# Altium schematic symbol library PCB_Project1.SCHLIB: 19 symbols
Pins are listed as number, name and electrical type; pins without a type are passive.

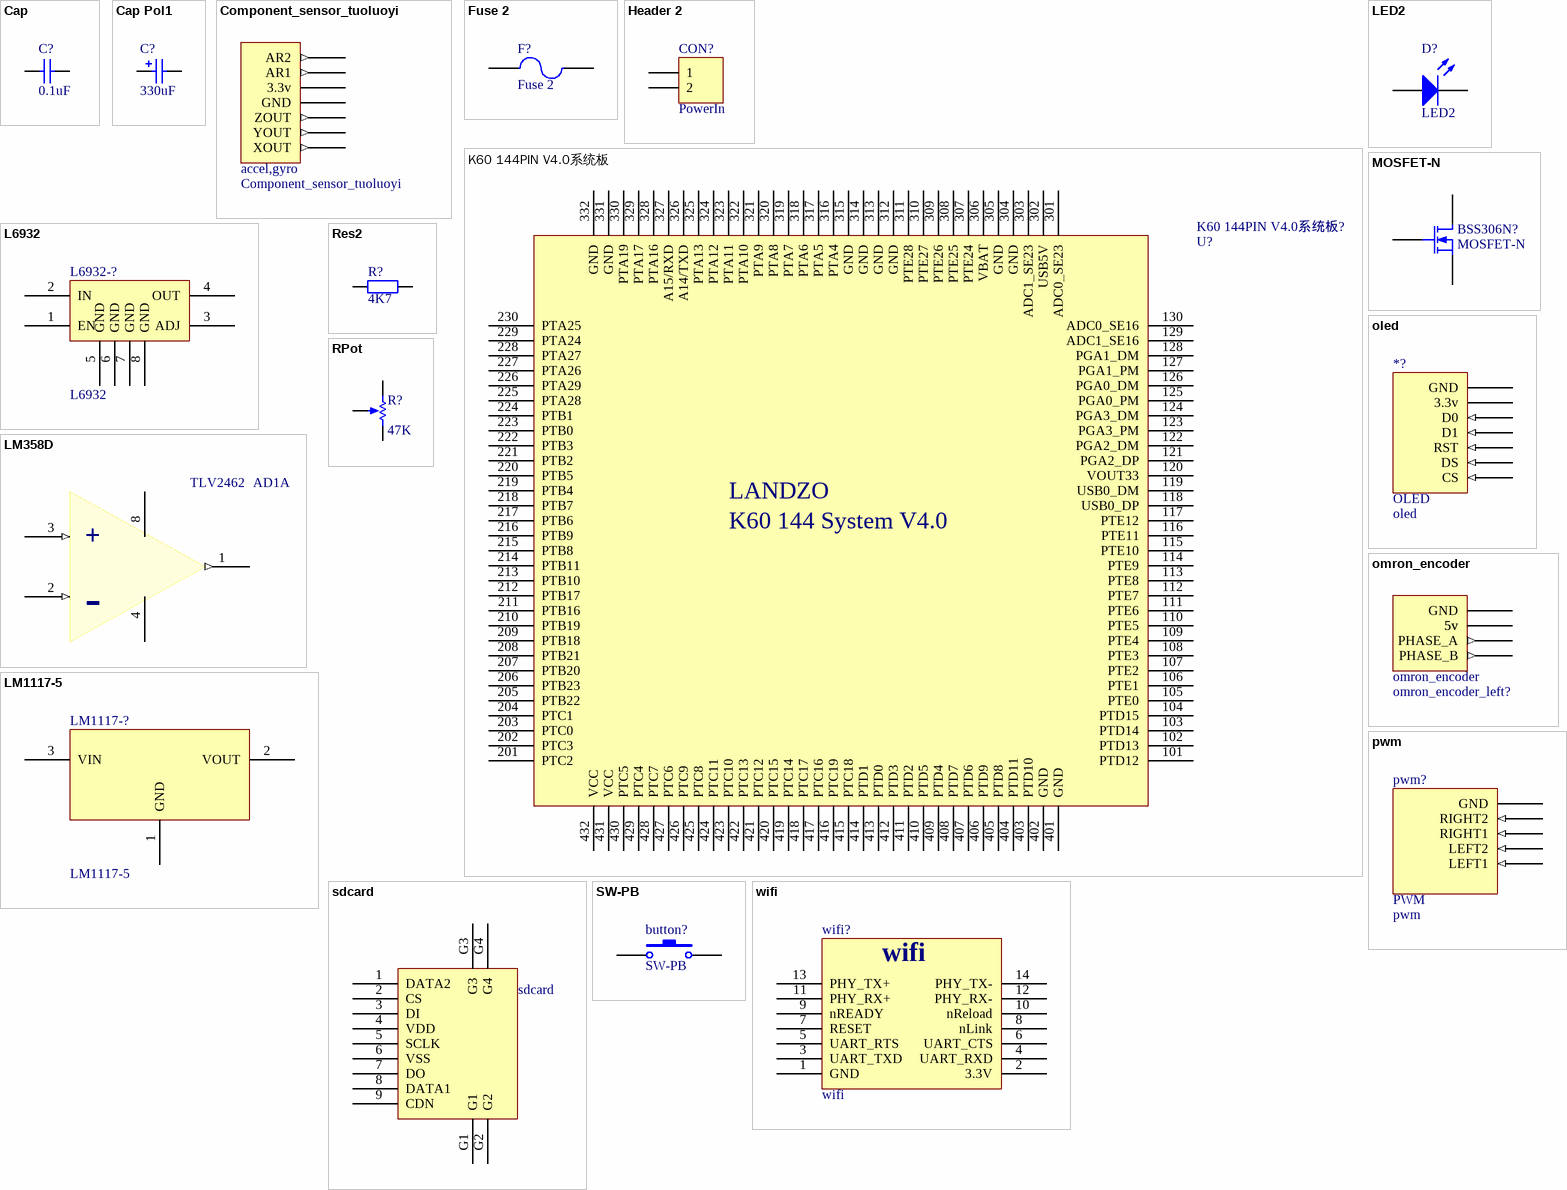
[diagram p0: symbols Cap to wifi]

## Cap
designator C?  value 0.1uF  (hidden comment: Cap)
Capacitor; Published: 8-Jun-2000; LatestRevisionDate: 17-Jul-2002; LatestRevisionNote: Re-released for DXP Platform.; PackageReference: RAD-0.3; Publisher: Altium Limited; PackageDescription: Radial Cap, Thru-Hole; 2 Leads; 0.3 in Pin Spacing
footprint RAD-0.3 (Radial Cap, Thru-Hole; 2 Leads; 0.3 in Pin Spacing)
simulation model CAP (Capacitor)
signal-integrity model Cap
pins: 1, 2

## Cap Pol1
designator C?  value 330uF  (hidden comment: Cap Pol1)
Polarized Capacitor (Radial); Published: 8-Jun-2000; LatestRevisionDate: 17-Jul-2002; LatestRevisionNote: Re-released for DXP Platform.; PackageReference: RB7.6-15; Publisher: Altium Limited; PackageDescription: Polarized Capacitor (Radial); 2 Leads
footprint RB7.6-15 (Polarized Capacitor (Radial); 2 Leads)
simulation model CAP (Capacitor)
signal-integrity model Cap Pol
pins: 1, 2
1 alternate drawing of the same symbol

## Component_sensor_tuoluoyi
designator sensor_tuoluoyi?
footprint HDR1X7H (Connector; Header; 7 Position; Right Angle); pin to pad 3.3v>5 AR1>6 AR2>7 GND>4 XOUT>1 YOUT>2 ZOUT>3
pins: 3.3v (power), AR1 (out), AR2 (out), GND, XOUT (out), YOUT (out), ZOUT (out)
text: accel,gyro

## Fuse 2
designator F?
Fuse; Published: 8-Jun-2000; LatestRevisionDate: 17-Jul-2002; LatestRevisionNote: Re-released for DXP Platform.; PackageReference: PIN-W2/E2.8; Publisher: Altium Limited; PackageDescription: Thru-Hole; 2 Leads
footprint PIN-W2/E2.8 (Thru-Hole; 2 Leads)
simulation model FUSE (Spice Subcircuit)
pins: 1, 2

## Header 2
designator CON?, comment PowerIn
Header, 2-Pin; LatestRevisionDate: 17-Jul-2002; LatestRevisionNote: Re-released for DXP Platform.; Publisher: Altium Limited
footprint HDR1X2 (Connector; Header; 2 Position)
signal-integrity model Connector
pins: 1, 2

## K60 144PIN V4.0系统板
designator K60 144PIN V4.0系统板?, comment U?
pins: 101 PTD12, 102 PTD13, 103 PTD14, 104 PTD15, 105 PTE0, 106 PTE1, 107 PTE2, 108 PTE3, 109 PTE4, 110 PTE5, 111 PTE6, 112 PTE7, 113 PTE8, 114 PTE9, 115 PTE10, 116 PTE11, 117 PTE12, 118 USB0_DP, 119 USB0_DM, 120 VOUT33, 121 PGA2_DP, 122 PGA2_DM, 123 PGA3_PM, 124 PGA3_DM, 125 PGA0_PM, 126 PGA0_DM, 127 PGA1_PM, 128 PGA1_DM, 129 ADC1_SE16, 130 ADC0_SE16, 201 PTC2, 202 PTC3, 203 PTC0, 204 PTC1, 205 PTB22, 206 PTB23, 207 PTB20, 208 PTB21, 209 PTB18, 210 PTB19, 211 PTB16, 212 PTB17, 213 PTB10, 214 PTB11, 215 PTB8, 216 PTB9, 217 PTB6, 218 PTB7, 219 PTB4, 220 PTB5, 221 PTB2, 222 PTB3, 223 PTB0, 224 PTB1, 225 PTA28, 226 PTA29, 227 PTA26, 228 PTA27, 229 PTA24, 230 PTA25, 301 ADC0_SE23, 302 USB5V, 303 ADC1_SE23, 304 GND, 305 GND, 306 VBAT, 307 PTE24, 308 PTE25, 309 PTE26, 310 PTE27, 311 PTE28, 312 GND, 313 GND, 314 GND, 315 GND, 316 PTA4, 317 PTA5, 318 PTA6, 319 PTA7, 320 PTA8, 321 PTA9, 322 PTA10, 323 PTA11, 324 PTA12, 325 PTA13, 326 A14/TXD, 327 A15/RXD, 328 PTA16, 329 PTA17, 330 PTA19, 331 GND, 332 GND, 401 GND, 402 GND, 403 PTD10, 404 PTD11, 405 PTD8, 406 PTD9, 407 PTD6, 408 PTD7, 409 PTD4, 410 PTD5, 411 PTD2, 412 PTD3, 413 PTD0, 414 PTD1, 415 PTC18, 416 PTC19, 417 PTC16, 418 PTC17, 419 PTC14, 420 PTC15, 421 PTC12, 422 PTC13, 423 PTC10, 424 PTC11, 425 PTC8, 426 PTC9, 427 PTC6, 428 PTC7, 429 PTC4, 430 PTC5, 431 VCC, 432 VCC
text: LANDZO; K60 144 System V4.0

## L6932
designator L6932-?
pins: 1 EN (power), 2 IN (power), 3 ADJ (power), 4 OUT (power), 5 GND (power), 6 GND (power), 7 GND (power), 8 GND (power)

## LED2
designator D?
Typical RED, GREEN, YELLOW, AMBER GaAs LED; Published: 8-Jun-2000; LatestRevisionDate: 17-Jul-2002; LatestRevisionNote: Re-released for DXP Platform.; PackageVersion: Feb-2002; PackageReference: 3.2X1.6X1.1; Publisher: Altium Limited; PackageDescription: SM LED; 2 Flat Leads
footprint 3.2X1.6X1.1 (SMT LED; 2 Flat Leads)
simulation model LED2 (Diode)
pins: 1 A, 2 K

## LM358D
designator AD1A?, comment AD1A
pins: 1 (out), 2 (in), 3 (in), 4 (power), 8 (power)
text: TLV2462; +; -

## LM1117-5
designator LM1117-?
footprint Model Name (Model Description)
pins: 1 GND (power), 2 VOUT (power), 3 VIN (power)

## MOSFET-N
designator BSS306N?
N-Channel MOSFET; Published: 8-Jun-2000; LatestRevisionDate: 17-Jul-2002; LatestRevisionNote: Re-released for DXP Platform.; PackageVersion: 1995/1996; PackageReference: E3; Publisher: Altium Limited; PackageDescription: TO, Flat Index; 3 In-Line, Axial Leads; Body Dia. 4.6mm; Lead Dia. 0.5 mm (max)
footprint E3 (TO, Flat Index; 3 In-Line, Axial Leads; Body Dia. 4.6mm; Lead Dia. 0.5 mm (max))
simulation model NMOS (MOSFET-N)
pins: 1 D, 2 G, 3 S

## oled
designator *?
pins: 3.3v (power), CS (in), D0 (in), D1 (in), DS (in), GND, RST (in)
text: OLED

## omron_encoder
designator omron_encoder_left?  (value not drawn)
pins: 5v (power), 5v (power), GND (power), PHASE_A (out), PHASE_B (out)

## pwm
designator pwm?
pins: GND (power), LEFT1 (in), LEFT2 (in), RIGHT1 (in), RIGHT2 (in)
text: PWM

## Res2
designator R?  value 4K7  (hidden comment: Res2)
Resistor; Published: 8-Jun-2000; LatestRevisionDate: 17-Jul-2002; LatestRevisionNote: Re-released for DXP Platform.; PackageReference: AXIAL-0.4; Publisher: Altium Limited; PackageDescription: Axial Device, Thru-Hole; 2 Leads; 0.4 in Pin Spacing
footprint AXIAL-0.4 (Axial Device, Thru-Hole; 2 Leads; 0.4 in Pin Spacing)
simulation model RESISTOR (Resistor)
signal-integrity model Res
pins: 1, 2

## RPot
designator R?, comment value 47K  (hidden comment: R4)
Potentiometer; Sim Note: Enter the Resistance value and the set point into parameter fields.; Set Position: 0.5; Published: 8-Jun-2000; LatestRevisionDate: 17-Jul-2002; LatestRevisionNote: Re-released for DXP Platform.; PackageReference: VR5; Publisher: Altium Limited; PackageDescription: Variable Resistor, Thru-Hole; 3 Leads
footprint VR5 (Thru-Hole; 3 Leads)
simulation model POT (Potentiometer)
pins: 1 TOP, 2 BOT, 3 TAP
1 alternate drawing of the same symbol

## sdcard
designator sdcard?
pins: 1 DATA2 (power), 2 CS (power), 3 DI (power), 4 VDD (power), 5 SCLK (power), 6 VSS (power), 7 DO (power), 8 DATA1 (power), 9 CDN (power), G1 (power), G2 (power), G3 (power), G4 (power)

## SW-PB
designator button?
Switch; Published: 24-Mar-1999; LatestRevisionDate: 17-Jul-2002; LatestRevisionNote: Re-released for DXP Platform.; PackageReference: SPST-2; Publisher: Altium Limited; PackageDescription: Switch; 2 Leads
footprint SPST-2 (Switch; 2 Leads)
pins: 1, 2

## wifi
designator wifi?
pins: 1 GND (power), 2 3.3V (power), 3 UART_TXD (power), 4 UART_RXD (power), 5 UART_RTS (power), 6 UART_CTS (power), 7 RESET (power), 8 nLink (power), 9 nREADY (power), 10 nReload (power), 11 PHY_RX+ (power), 12 PHY_RX- (power), 13 PHY_TX+ (power), 14 PHY_TX- (power)